# Altium schematic symbol library Schlib1.SchLib: 80 symbols
Pins are listed as number, name and electrical type; pins without a type are passive.

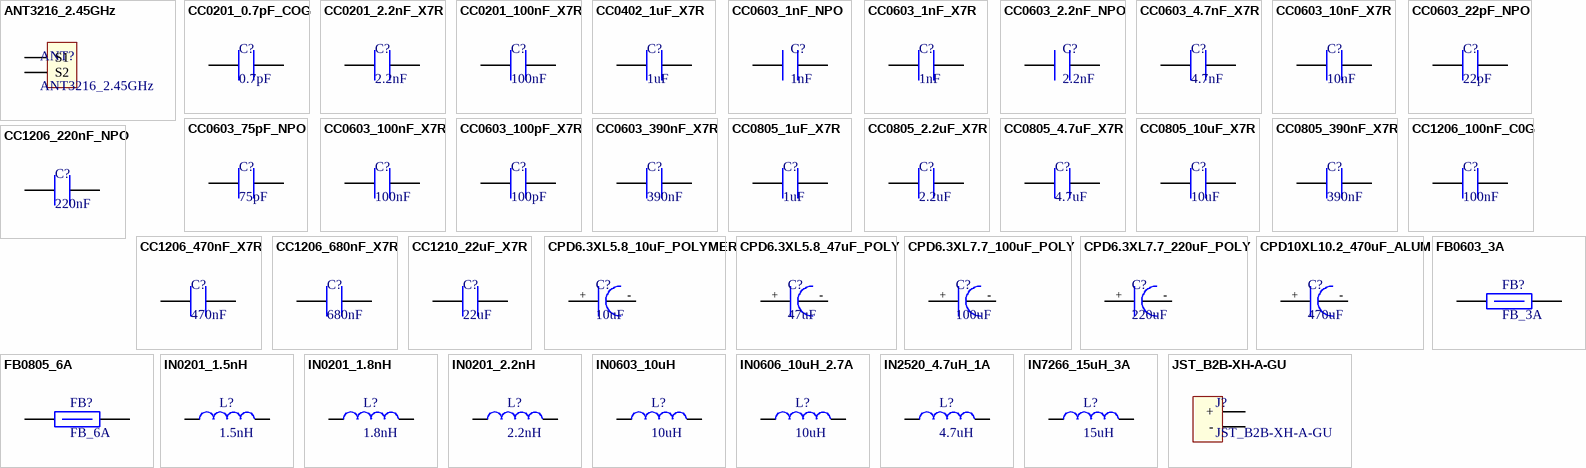
[diagram p0: symbols ANT3216_2.45GHz to JST_B2B-XH-A-GU]

## ANT3216_2.45GHz
designator ANT?
C293767, ANT3216LL00R2400A, -40℃~+105℃ 1.2mm 1.6mm 160MHz 1W 2.45GHz 3.2mm 5.05dBi 50Ω 1206 Antennas ROHS; Supplier 1: Verical; Supplier Part Number 1: ANT3216LL00R2400A
footprint ANT3216_2.4GHz (Chip Antenna, 2-Leads, Body 3.20x1.60mm, IPC Medium Density)
pins: 1 S1, 2 S2

## CC0201_0.7pF_COG
designator C?, comment 0.7pF
C907945, GJM0335C1ER70WB01D, 0.7pF 25V C0G 0201 Multilayer Ceramic Capacitors MLCC - SMD/SMT ROHS; Supplier 1: element14 APAC; Supplier Part Number 1: GJM0335C1ER70WB01D
footprint CAPC0201X03N (Chip Capacitor, 2-Leads, Body 0.60x0.30mm, IPC Medium Density)
pins: 1, 2

## CC0201_2.2nF_X7R
designator C?, comment 2.2nF
C161488. GRM033R71E222KA12D, 2.2nF 25V X7R ±10% 0201 Multilayer Ceramic Capacitors MLCC - SMD/SMT ROHS; Supplier 1: element14 APAC; Supplier Part Number 1: GRM033R71E222KA12D
footprint CAPC0201X03N (Chip Capacitor, 2-Leads, Body 0.60x0.30mm, IPC Medium Density)
pins: 1, 2

## CC0201_100nF_X7R
designator C?, comment 100nF
C1882920, CC0201KRX7R5BB104, 100nF 6.3V X7R ±10% 0201 Multilayer Ceramic Capacitors MLCC - SMD/SMT ROHS; Supplier 1: element14 APAC; Supplier Part Number 1: CC0201KRX7R5BB104
footprint CAPC0201X03N (Chip Capacitor, 2-Leads, Body 0.60x0.30mm, IPC Medium Density)
pins: 1, 2

## CC0402_1uF_X7R
designator C?, comment 1uF
C307427, CL05B105KQ5NQNC, 1uF 6.3V X7R ±10% 0402 Multilayer Ceramic Capacitors MLCC - SMD/SMT ROHS; Supplier 1: element14 APAC; Supplier Part Number 1: CL05B105KQ5NQNC
footprint CAPC0402X06N (Chip Capacitor, 2-Leads, Body 1.00x0.50mm, IPC Medium Density)
pins: 1, 2

## CC0603_1nF_NPO
designator C?, comment 1nF
C106246, CC0603JRNPO9BN102, 1nF 50V NP0 ±5% 0603 Multilayer Ceramic Capacitors MLCC - SMD/SMT ROHS; Supplier 1: element14 APAC; Supplier Part Number 1: CC0603JRNPO9BN102
footprint CAPC0603X8N
pins: 1, 2

## CC0603_1nF_X7R
designator C?, comment 1nF
C100040, CC0603KRX7R9BB102, 1nF 50V X7R ±10% 0603 Multilayer Ceramic Capacitors MLCC - SMD/SMT ROHS; Supplier 1: element14 APAC; Supplier Part Number 1: CC0603KRX7R9BB102
footprint CAPC0603X8N
pins: 1, 2

## CC0603_2.2nF_NPO
designator C?, comment 2.2nF
C107043, CC0603JRNPO9BN222, 2.2nF 50V NP0 ±5% 0603 Multilayer Ceramic Capacitors MLCC - SMD/SMT ROHS; Supplier 1: Arrow Electronics; Supplier Part Number 1: CC0603JRNPO9BN222
footprint CAPC0603X8N
pins: 1, 2

## CC0603_4.7nF_X7R
designator C?, comment 4.7nF
C106218, CC0603KRX7R9BB472, 4.7nF 50V X7R ±10% 0603 Multilayer Ceramic Capacitors MLCC - SMD/SMT ROHS; Supplier 1: element14 APAC; Supplier Part Number 1: CC0603KRX7R9BB472
footprint CAPC0603X8N
pins: 1, 2

## CC0603_10nF_X7R
designator C?, comment 10nF
C100042, CC0603KRX7R9BB103, 10nF 50V X7R ±10% 0603 Multilayer Ceramic Capacitors MLCC - SMD/SMT ROHS; Supplier 1: element14 APAC; Supplier Part Number 1: CC0603KRX7R9BB103
footprint CAPC0603X8N
pins: 1, 2

## CC0603_22pF_NPO
designator C?, comment 22pF
C105620, CC0603JRNPO9BN220, 22pF 50V NP0 ±5% 0603 Multilayer Ceramic Capacitors MLCC - SMD/SMT ROHS; Supplier 1: element14 APAC; Supplier Part Number 1: CC0603JRNPO9BN220
footprint CAPC0603X8N
pins: 1, 2

## CC0603_75pF_NPO
designator C?, comment 75pF
C282074, CC0603JRNPO9BN750, 50V 75pF NP0 ±5% 0603 Multilayer Ceramic Capacitors MLCC - SMD/SMT ROHS; Supplier 1: element14 APAC; Supplier Part Number 1: CC0603JRNPO9BN750
footprint CAPC0603X8N
pins: 1, 2

## CC0603_100nF_X7R
designator C?, comment 100nF
C14663, CC0603KRX7R9BB104, 100nF 50V X7R ±10% 0603 Multilayer Ceramic Capacitors MLCC - SMD/SMT ROHS; Supplier 1: element14 APAC; Supplier Part Number 1: CC0603KRX7R9BB104
footprint CAPC0603X8N
pins: 1, 2

## CC0603_100pF_X7R
designator C?, comment 100pF
C14663 ,CC0603KRX7R9BB104, 100nF 50V X7R ±10% 0603 Multilayer Ceramic Capacitors MLCC - SMD/SMT ROHS; Supplier 1: Avnet; Supplier Part Number 1: CC0603KRX7R9BB104
footprint CAPC0603X8N
pins: 1, 2

## CC0603_390nF_X7R
designator C?, comment 390nF
C376833, TCC0603X7R394K500CT, 390nF 50V X7R ±10% 0603 Multilayer Ceramic Capacitors MLCC - SMD/SMT ROHS
footprint CAPC1206X18N (Chip Capacitor, 2-Leads, Body 3.20x1.60mm, IPC Medium Density)
pins: 1, 2

## CC0805_1uF_X7R
designator C?, comment 1uF
C28323, CL21B105KBFNNNE, 1uF 50V X7R ±10% 0805 Multilayer Ceramic Capacitors MLCC - SMD/SMT ROHS; Supplier 1: Future Electronics; Supplier Part Number 1: CL21B105KBFNNNE
footprint CAP0805X13N (Chip Capacitor, 2-Leads, Body 2.00x1.25mm, IPC Medium Density)
pins: 1, 2

## CC0805_2.2uF_X7R
designator C?, comment 2.2uF
C19110 ,CL21B225KAFNNNE, 2.2uF 25V X7R ±10% 0805 Multilayer Ceramic Capacitors MLCC - SMD/SMT ROHS; Supplier 1: Avnet; Supplier Part Number 1: CL21B225KAFNNNE
footprint CAP0805X13N (Chip Capacitor, 2-Leads, Body 2.00x1.25mm, IPC Medium Density)
pins: 1, 2

## CC0805_4.7uF_X7R
designator C?, comment 4.7uF
C354262, CC0805KKX7R8BB475, 25V 4.7uF X7R ±10% 0805 Multilayer Ceramic Capacitors MLCC - SMD/SMT ROHS; Supplier 1: element14 APAC; Supplier Part Number 1: CC0805KKX7R8BB475
footprint CAP0805X13N (Chip Capacitor, 2-Leads, Body 2.00x1.25mm, IPC Medium Density)
pins: 1, 2

## CC0805_10uF_X7R
designator C?, comment 10uF
C95841, CL21B106KOQNNNE, 10uF 16V X7R ±10% 0805 Multilayer Ceramic Capacitors MLCC - SMD/SMT ROHS; Supplier 1: Avnet; Supplier Part Number 1: CL21B106KOQNNNE
footprint CAPC0805X14N (Chip Capacitor, 2-Leads, Body 2.00x1.25mm, IPC Medium Density)
pins: 1, 2

## CC0805_390nF_X7R
designator C?, comment 390nF
C1854267, CC0805KKX7R9BB394, 390nF 50V X7R ±10% 0805 Multilayer Ceramic Capacitors MLCC - SMD/SMT ROHS; Supplier 1: element14 APAC; Supplier Part Number 1: CC0805KKX7R9BB394
footprint CAPC0805X14N (Chip Capacitor, 2-Leads, Body 2.00x1.25mm, IPC Medium Density)
pins: 1, 2

## CC1206_100nF_C0G
designator C?, comment 100nF
C97946, GRM31C5C1H104JA01L, 100nF 50V C0G ±5% 1206 Multilayer Ceramic Capacitors MLCC - SMD/SMT ROHS; Supplier 1: TME; Supplier Part Number 1: GRM31C5C1H104JA01L
footprint CAPC1206X18N (Chip Capacitor, 2-Leads, Body 3.20x1.60mm, IPC Medium Density)
pins: 1, 2

## CC1206_220nF_NPO
designator C?, comment 220nF
C464977, GRM31C5C1H224JE02L, 220nF 50V C0G ±5% 1206 Multilayer Ceramic Capacitors MLCC - SMD/SMT ROHS; Supplier 1: Chip One Stop; Supplier Part Number 1: GRM31C5C1H224JE02L
footprint CAPC1206X18N (Chip Capacitor, 2-Leads, Body 3.20x1.60mm, IPC Medium Density)
pins: 1, 2

## CC1206_470nF_X7R
designator C?, comment 470nF
C277483, CC1206KKX7R9BB474, 470nF 50V X7R ±10% 1206 Multilayer Ceramic Capacitors MLCC - SMD/SMT ROHS; Supplier 1: element14 APAC; Supplier Part Number 1: CC1206KKX7R9BB474
footprint CAPC1206X18N (Chip Capacitor, 2-Leads, Body 3.20x1.60mm, IPC Medium Density)
pins: 1, 2

## CC1206_680nF_X7R
designator C?, comment 680nF
C145012, CC1206KKX7R9BB684, 50V 680nF X7R ±10% 1206 Multilayer Ceramic Capacitors MLCC - SMD/SMT ROHS; Supplier 1: element14 APAC; Supplier Part Number 1: CC1206KKX7R9BB684
footprint CAPC1206X18N (Chip Capacitor, 2-Leads, Body 3.20x1.60mm, IPC Medium Density)
pins: 1, 2

## CC1210_22uF_X7R
designator C?, comment 22uF
C309062, CL32B226KAJNNNE, 22uF 25V X7R ±10% 1210 Multilayer Ceramic Capacitors MLCC - SMD/SMT ROHS; Supplier 1: Avnet; Supplier Part Number 1: CL32B226KAJNNNE
footprint CAPC1210X25N (Chip Capacitor, 2-Leads, Body 3.20x2.50mm, IPC Medium Density)
pins: 1, 2

## CPD6.3XL5.8_10uF_POLYMER
designator C?, comment 10uF
C5246550, HV1V106M0605PZ, -55℃~+105℃ 10uF 2.2mm 2000hrs 35V 5.8mm 6.3mm ±20% SMD,D6.3xL5.8mm Polymer Aluminum Capacitors ROHS; Supplier 1: LCSC; Supplier Part Number 1: C5246550
footprint CAPD6.3XL5.8X61M (Polymer Aluminum Electrolytic Capacitor, Body 6.70x6.70x6.10mm, IPC Low Density)
pins: 1, 2
text: +; -

## CPD6.3XL5.8_47uF_POLY
designator C?, comment 47uF
C5246552, HV1V476M0605PZ, -55℃~+105℃ 2.2mm 2000hrs 35V 47uF 5.8mm 6.3mm ±20% SMD,D6.3xL5.8mm Polymer Aluminum Capacitors ROHS; Supplier 1: LCSC; Supplier Part Number 1: C5246552
footprint CAPD6.3XL5.8X61M (Polymer Aluminum Electrolytic Capacitor, Body 6.70x6.70x6.10mm, IPC Low Density)
pins: 1, 2
text: +; -

## CPD6.3XL7.7_100uF_POLY
designator C?, comment 100uF
C5246554, HV1V107M0607PZ, -55℃~+105℃ 100uF 2.2mm 2000hrs 35V 6.3mm 7.7mm ±20% SMD,D6.3xL7.7mm Polymer Aluminum Capacitors ROHS; Supplier 1: LCSC; Supplier Part Number 1: C5246554
footprint CAPD6.3XL6.3X77M (Aluminum Electrolytic Capacitor, Body 6.60x6.60x7.70mm, IPC Low Density)
pins: 1, 2
text: +; -

## CPD6.3XL7.7_220uF_POLY
designator C?, comment 220uF
C5246541, HV1E227M0607PZ, -55℃~+105℃ 2.2mm 2000hrs 220uF 25V 6.3mm 7.7mm ±20% SMD,D6.3xL7.7mm Polymer Aluminum Capacitors ROHS; Supplier 1: LCSC; Supplier Part Number 1: C5246541
footprint CAPD6.3XL6.3X77M (Aluminum Electrolytic Capacitor, Body 6.60x6.60x7.70mm, IPC Low Density)
pins: 1, 2
text: +; -

## CPD10XL10.2_470uF_ALUM
designator C?, comment 470uF
C3350, RVT1V471M1010, -55℃~+105℃ 10.2mm 10mm 2000hrs@105℃ 35V 470uF ±20% SMD,D10xL10.2mm Aluminum Electrolytic Capacitors - SMD ROHS; Supplier 1: UnikeyIC; Supplier Part Number 1: RVT1V471M1010
footprint CAPD10XL11.1X10.2M
pins: 1, 2
text: +; -

## FB0603_3A
designator FB?, comment FB_3A
C107332, MPZ1608S101ATAH0, -55℃~+125℃ 1 100Ω@100MHz 30mΩ 3A ±25% 0603 Ferrite Beads ROHS; Supplier 1: element14 APAC; Supplier Part Number 1: MPZ1608S101ATAH0
footprint FB0603X08N (Chip Inductor, 2-Leads, Body 1.60x0.80mm, IPC Medium Density)
pins: 1, 2

## FB0805_6A
designator FB?, comment FB_6A
C136227, MPZ2012S300AT000, -55℃~+125℃ 1 10mΩ 30Ω@100MHz 6A ±25% 0805 Ferrite Beads ROHS; Supplier 1: element14 APAC; Supplier Part Number 1: MPZ2012S300AT000
footprint FB0805X12N (Chip Inductor, 2-Leads, Body 2.00x1.25mm, IPC Medium Density)
pins: 1, 2

## IN0201_1.5nH
designator L?, comment 1.5nH
C77114, LQP03TN1N5B02D, 1.5nH 14@500MHz 150mΩ 15GHz 600mA Thick Film Inductor 0201 Inductors (SMD) ROHS; Supplier 1: Future Electronics; Supplier Part Number 1: LQP03TN1N5B02D
footprint INDC0201 (Chip Inductor, 2-Leads, Body 0.60x0.30mm, IPC Medium Density)
pins: 1, 2

## IN0201_1.8nH
designator L?, comment 1.8nH
C98040, LQP03TN1N8B02D, 1.8nH 14@500MHz 150mΩ 15GHz 600mA Thick Film Inductor 0201 Inductors (SMD) ROHS; Supplier 1: element14 APAC; Supplier Part Number 1: LQP03TN1N8B02D
footprint INDC0201 (Chip Inductor, 2-Leads, Body 0.60x0.30mm, IPC Medium Density)
pins: 1, 2

## IN0201_2.2nH
designator L?, comment 2.2nH
C98041, LQP03TN2N2B02D, 11GHz 14@500MHz 150mΩ 2.2nH 600mA Thick Film Inductor 0201 Inductors (SMD) ROHS; Supplier 1: element14 APAC; Supplier Part Number 1: LQP03TN2N2B02D
footprint INDC0201 (Chip Inductor, 2-Leads, Body 0.60x0.30mm, IPC Medium Density)
pins: 1, 2

## IN0603_10uH
designator L?, comment 10uH
C76798, MLZ1608M100WT000, 1.05Ω 10uH 250mA 2MHz 90mA Multilayer inductor ±20% 0603 Inductors (SMD) ROHS; Supplier 1: element14 APAC; Supplier Part Number 1: MLZ1608M100WT000
footprint INDC0603X08N (Chip Inductor, 2-Leads, Body 1.60x0.80mm, IPC Medium Density)
pins: 1, 2

## IN0606_10uH_2.7A
designator L?, comment 10uH
C168076, FNR6045S100MT, 10uH 2.7A 3.5A 62mΩ Magnetic Shielded Inductor ±20% SMD,6x6mm Power Inductors ROHS
footprint INDC6060X45N (Chip Inductor, 2-Leads, Body 6.00x6.00mm, IPC Medium Density)
pins: 1, 2

## IN2520_4.7uH_1A
designator L?, comment 4.7uH
C91237, MLP2520S4R7MT0S1, 130mΩ 1A 4.7uH Multilayer inductor ±20% 1008 Inductors (SMD) ROHS; Supplier 1: element14 APAC; Supplier Part Number 1: MLP2520S4R7MT0S1
footprint INDC2520X10N (Chip Inductor, 2-Leads, Body 2.50x2.00mm, IPC Medium Density)
pins: 1, 2

## IN7266_15uH_3A
designator L?, comment 15uH
C5189959, CYA0630-15UH, 15uH 3.8A 3A 98mΩ ±20% SMD,7.2x6.6mm Inductors (SMD) ROHS; Supplier 1: LCSC; Supplier Part Number 1: C5189959
footprint INDM7266X30N (Molded Inductor, 2-Leads, Body 7.20x6.60mm, IPC Medium Density)
pins: 1, 2

## JST_B2B-XH-A-GU
designator J?
C265283, B2B-XH-A-GU, -25℃~+85℃ 1 1x2P 2 2.5mm 250V 2P 3A 5.75mm 7.4mm 7mm Brass Gold K Pin PA66 Through Hole UL94V-0 White XH 插件,P=2.5mm Wire To Board Connector ROHS; Supplier 1: Verical; Supplier Part Number 1: B2B-XH-A-GU
footprint JST_B2B_XH_A_GU
pins: 1 +, 2 -

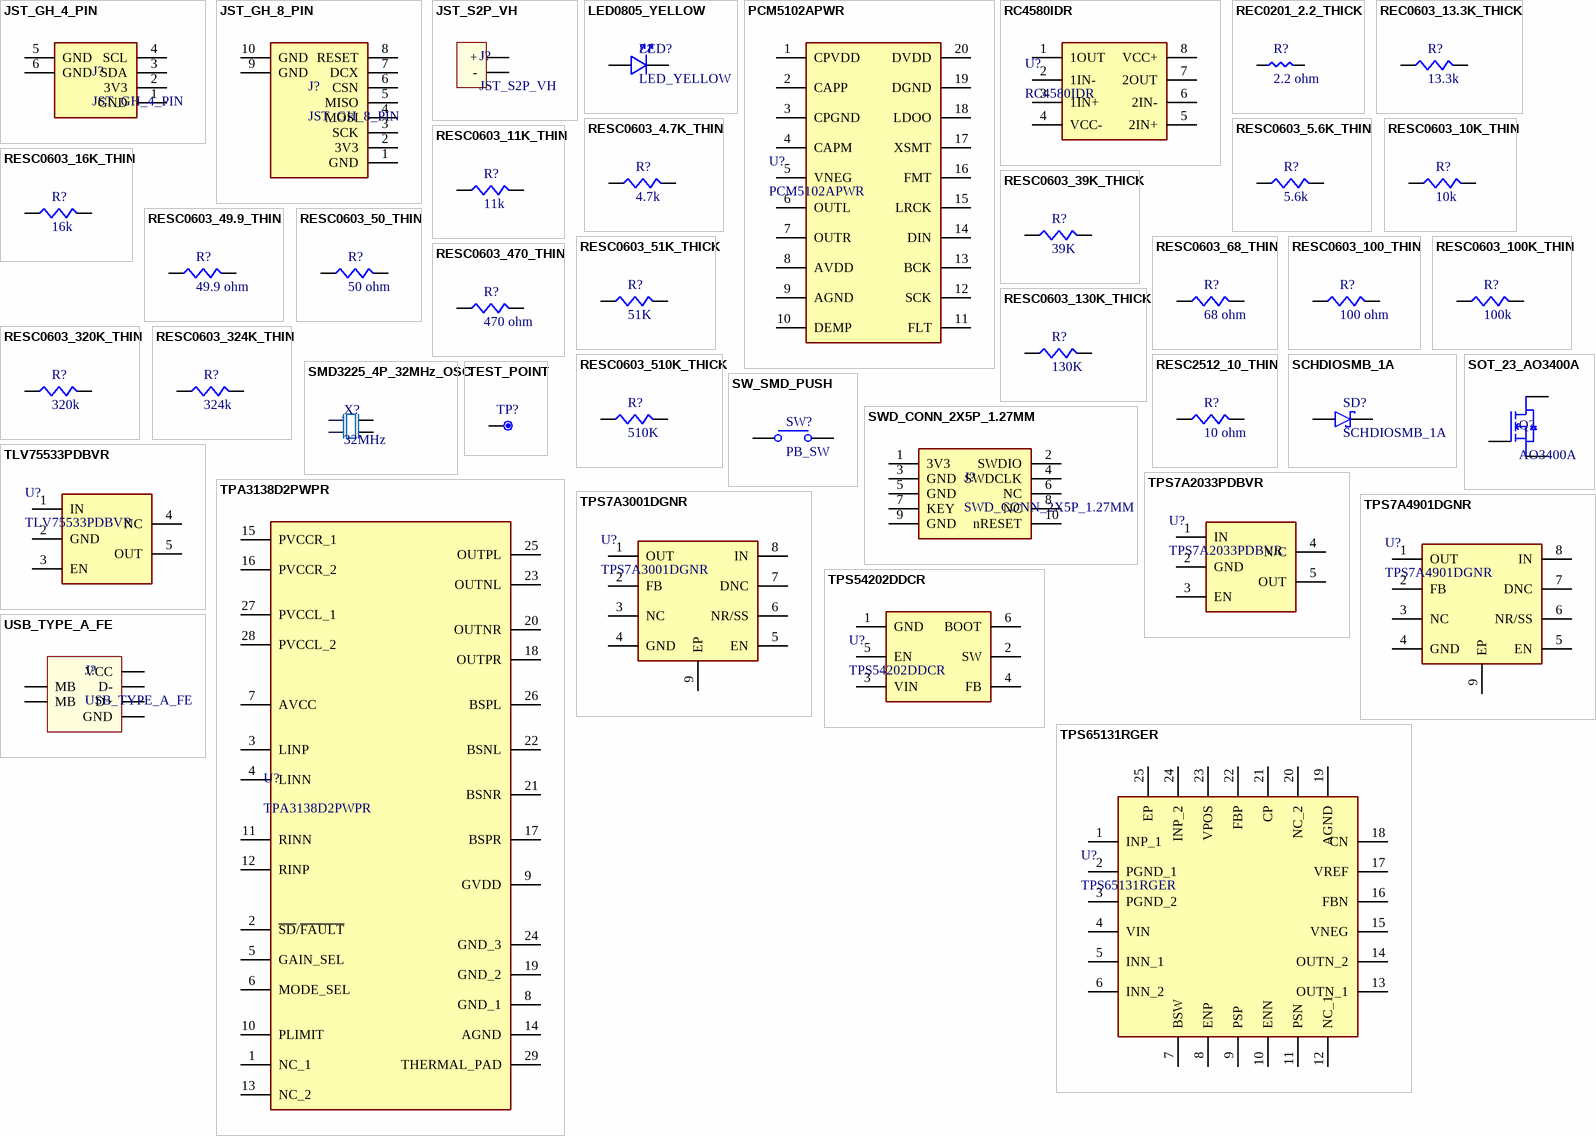
[diagram p1: symbols JST_GH_4_PIN to USB_TYPE_A_FE]

## JST_GH_4_PIN
designator J?
C161692, BM04B-GHS-TBT(LF)(SN), -25℃~+85℃ 1 1.25mm 1A 1x4P 4 4.05mm 4.32mm 4P 50V 8.25mm Auxiliary Solder Pin GH PA9T Phosphor bronze Surface Mount,Vertical Tin UL94V-0 White SMD,P=1.25mm Wire To Board Connector ROHS; Supplier 1: CoreStaff; Supplier Part Number 1: ST74986991
footprint JST_GH_4_PIN
pins: 1 GND, 2 3V3, 3 SDA, 4 SCL, 5 GND, 6 GND

## JST_GH_8_PIN
designator J?
C133062, BM08B-GHS-TBT(LF)(SN), -25℃~+85℃ 1 1.25mm 13.25mm 1A 1x8P 4.05mm 4.32mm 50V 8 8P Auxiliary Solder Pin GH PA9T Phosphor bronze Surface Mount,Vertical Tin UL94V-0 White SMD,P=1.25mm Wire To Board Connector ROHS; Supplier 1: Future Electronics; Supplier Part Number 1: BM08B-GHS-TBT(LF)(SN)
footprint JST_GH_8_PIN
pins: 1 GND, 2 3V3, 3 SCK, 4 MOSI, 5 MISO, 6 CSN, 7 DCX, 8 RESET, 9 GND, 10 GND

## JST_S2P_VH
designator J?
C160355, S2P-VH(LF)(SN), -25℃~+85℃ 1 10A 13.9mm 1x2P 2 250V 2P 3.96mm 7.86mm Brass PA66 Right Angle Tin UL94V-0 VH White 弯插,P=3.96mm Wire To Board Connector ROHS; Supplier 1: CoreStaff; Supplier Part Number 1: ST73514420
footprint JST_S2P_VH
pins: 1 +, 2 -

## LED0805_YELLOW
designator LED?, comment LED_YELLOW
C965814, XL-2012UYC, 120° 2.3V 20mA 50mW 585nm~595nm 590nm Discrete Diode Top-mount Water Clear Yellow 0805 LED Indication - Discrete ROHS; Supplier 1: UnikeyIC; Supplier Part Number 1: XL-2012UYC
footprint LED_0805_127P120X200-2N (Chip Array, Concave, 2-Leads, Pitch 1.27mm,  Body 1.20x2.00mm,  IPC Medium Density)
pins: 1 -, 2 +

## PCM5102APWR
designator U?
C107671, PCM5102APWR, -25℃~+85℃ 1.8V~3.3V 2 32 384kHz 500uA 50MHz Audio Decoder I2S TSSOP-20 ADCs/DACs - Special Purpose ROHS; Manufacturer_Name: Texas Instruments; Datasheet Link: https://componentsearchengine.com/Datasheets/2/PCM5102APWR.pdf; Height: 1.2mm; Manufacturer_Part_Number: PCM5102APWR; Mouser Part Number: 595-PCM5102APWR; Mouser Price/Stock: https://www.mouser.co.uk/ProductDetail/Texas-Instruments/PCM5102APWR?qs=E2%2FxqS9xjzrfECkwEYoiyg%3D%3D; Arrow Part Number: PCM5102APWR; Arrow Price/Stock: https://www.arrow.com/en/products/pcm5102apwr/texas-instruments?utm_currency=USD&region=nac; Supplier 1: DigiKey; Supplier Part Number 1: 296-36707-1-ND
footprint SOP65P640X120-20N
pins: 1 CPVDD, 2 CAPP, 3 CPGND, 4 CAPM, 5 VNEG, 6 OUTL, 7 OUTR, 8 AVDD, 9 AGND, 10 DEMP, 11 FLT, 12 SCK, 13 BCK, 14 DIN, 15 LRCK, 16 FMT, 17 XSMT, 18 LDOO, 19 DGND, 20 DVDD

## RC4580IDR
designator U?
C80100, RC4580IDR, -16V~-2V、2V~16V -40℃~+85℃ 0.0005% 110dB 2-Channel 9mA SOIC-8 Audio Amplifiers ROHS; Manufacturer_Name: Texas Instruments; Datasheet Link: http://www.ti.com/lit/gpn/rc4580; Height: 1.75mm; Manufacturer_Part_Number: RC4580IDR; Mouser Part Number: 595-RC4580IDR; Mouser Price/Stock: https://www.mouser.co.uk/ProductDetail/Texas-Instruments/RC4580IDR?qs=sSOk4GDDv7xt5SOlVrtkww%3D%3D; Arrow Part Number: RC4580IDR; Arrow Price/Stock: https://www.arrow.com/en/products/rc4580idr/texas-instruments?region=nac; Supplier 1: Rochester Electronics; Supplier Part Number 1: RC4580IDR
footprint SOIC127P600X175-8N
pins: 1 1OUT, 2 1IN-, 3 1IN+, 4 VCC-, 5 2IN+, 6 2IN-, 7 2OUT, 8 VCC+

## REC0201_2.2_THICK
designator R?, comment 2.2 ohm
C474415, RC0201JR-072R2L, -100ppm/℃~+350ppm/℃ -55℃~+125℃ 2.2Ω 25V 50mW Thick Film Resistor ±5% 0201 Chip Resistor - Surface Mount ROHS; Supplier 1: element14 APAC; Supplier Part Number 1: RC0201JR-072R2L
footprint CAPC0201X03N (Chip Capacitor, 2-Leads, Body 0.60x0.30mm, IPC Medium Density)
pins: 1, 2

## REC0603_13.3K_THICK
designator R?, comment 13.3k
C185373, RC0603FR-0713K3L, -55℃~+155℃ 100mW 13.3kΩ 75V Thick Film Resistor ±1% ±100ppm/℃ 0603 Chip Resistor - Surface Mount ROHS; Supplier 1: Future Electronics; Supplier Part Number 1: RC0603FR-0713K3L
footprint RECS0603X45N
pins: 1, 2

## RESC0603_4.7K_THIN
designator R?, comment 4.7k
C513565, RT0603BRD074K7L, -55℃~+155℃ 100mW 4.7kΩ 75V Thin Film Resistor ±0.1% ±25ppm/℃ 0603 Chip Resistor - Surface Mount ROHS; Supplier 1: Avnet; Supplier Part Number 1: RT0603BRD074K7L
footprint RECS0603X45N
pins: 1, 2

## RESC0603_5.6K_THIN
designator R?, comment 5.6k
C179095, RT0603BRD075K6L, -55℃~+155℃ 100mW 5.6kΩ 75V Thin Film Resistor ±0.1% ±25ppm/℃ 0603 Chip Resistor - Surface Mount ROHS; Supplier 1: element14 APAC; Supplier Part Number 1: 3496658
footprint RECS0603X45N
pins: 1, 2

## RESC0603_10K_THIN
designator R?, comment 10k
C95204, RT0603BRD0710KL, -55℃~+155℃ 100mW 10kΩ 75V Thin Film Resistor ±0.1% ±25ppm/℃ 0603 Chip Resistor - Surface Mount ROHS; Supplier 1: Avnet; Supplier Part Number 1: RT0603BRD0710KL
footprint RECS0603X45N
pins: 1, 2

## RESC0603_11K_THIN
designator R?, comment 11k
C728581, RT0603BRD0711KL, -55℃~+155℃ 100mW 11kΩ 75V Thin Film Resistor ±0.1% ±25ppm/℃ 0603 Chip Resistor - Surface Mount ROHS; Supplier 1: element14 APAC; Supplier Part Number 1: 4152637
footprint RECS0603X45N
pins: 1, 2

## RESC0603_16K_THIN
designator R?, comment 16k
C137788, RC0603FR-0716KL, -55℃~+155℃ 100mW 16kΩ 75V Thick Film Resistor ±1% ±100ppm/℃ 0603 Chip Resistor - Surface Mount ROHS; Supplier 1: element14 APAC; Supplier Part Number 1: RC0603FR-0716KL
footprint RECS0603X45N
pins: 1, 2

## RESC0603_39K_THICK
designator R?, comment 39K
C163424, RC0603FR-0739KL, -55℃~+155℃ 100mW 39kΩ 75V Thick Film Resistor ±1% ±100ppm/℃ 0603 Chip Resistor - Surface Mount ROHS; Supplier 1: element14 APAC; Supplier Part Number 1: RC0603FR-0739KL
footprint RECS0603X45N
pins: 1, 2

## RESC0603_49.9_THIN
designator R?, comment 49.9 ohm
C23185, 0603WAF499JT5E, -55℃~+155℃ 100mW 49.9Ω 75V Thick Film Resistor ±1% ±100ppm/℃ 0603 Chip Resistor - Surface Mount ROHS; Supplier 1: TME; Supplier Part Number 1: 0603WAF499JT5E
footprint RECS0603X45N
pins: 1, 2

## RESC0603_50_THIN
designator R?, comment 50 ohm
C849792, RT0603BRE0750RL, -55℃~+155℃ 100mW 50Ω 75V Thin Film Resistor ±0.1% ±50ppm/℃ 0603 Chip Resistor - Surface Mount ROHS; Supplier 1: element14 APAC; Supplier Part Number 1: RT0603BRE0750RL
footprint RECS0603X45N
pins: 1, 2

## RESC0603_51K_THICK
designator R?, comment 51K
C107231, RC0603FR-0751KL, -55℃~+155℃ 100mW 51kΩ 75V Thick Film Resistor ±1% ±100ppm/℃ 0603 Chip Resistor - Surface Mount ROHS; Supplier 1: element14 APAC; Supplier Part Number 1: RC0603FR-0751KL
footprint RECS0603X45N
pins: 1, 2

## RESC0603_68_THIN
designator R?, comment 68 ohm
C861523, RT0603BRD0768RL, -55℃~+155℃ 100mW 68Ω 75V Thin Film Resistor ±0.1% ±25ppm/℃ 0603 Chip Resistor - Surface Mount ROHS; Supplier 1: CoreStaff; Supplier Part Number 1: ST66570258
footprint RECS0603X45N
pins: 1, 2

## RESC0603_100_THIN
designator R?, comment 100 ohm
C122970, RT0603BRD07100RL, -55℃~+155℃ 100mW 100Ω 75V Thin Film Resistor ±0.1% ±25ppm/℃ 0603 Chip Resistor - Surface Mount ROHS; Supplier 1: element14 APAC; Supplier Part Number 1: RT0603BRD07100RL
footprint RECS0603X45N
pins: 1, 2

## RESC0603_100K_THIN
designator R?, comment 100k
C116674, AC0603FR-07100KL, -55℃~+155℃ 100kΩ 100mW 75V Thick Film Resistor ±1% ±100ppm/℃ 0603 Chip Resistor - Surface Mount ROHS; Supplier 1: element14 APAC; Supplier Part Number 1: AC0603FR-07100KL
footprint RECS0603X45N
pins: 1, 2

## RESC0603_130K_THICK
designator R?, comment 130K
C163432, RC0603FR-07130KL, -55℃~+155℃ 100mW 130kΩ 75V Thick Film Resistor ±1% ±100ppm/℃ 0603 Chip Resistor - Surface Mount ROHS; Supplier 1: element14 APAC; Supplier Part Number 1: RC0603FR-07130KL
footprint RECS0603X45N
pins: 1, 2

## RESC0603_320K_THIN
designator R?, comment 320k
C20165692, RT0603BRD07320KL, -55℃~+155℃ 100mW 320kΩ 75V Thin Film Resistor ±0.1% ±25ppm/℃ 0603 Chip Resistor - Surface Mount ROHS; Supplier 1: element14 APAC; Supplier Part Number 1: RT0603BRD07320KL
footprint RECS0603X45N
pins: 1, 2

## RESC0603_324K_THIN
designator R?, comment 324k
C861321, RT0603BRD07324KL, -55℃~+155℃ 100mW 324kΩ 75V Thin Film Resistor ±0.1% ±25ppm/℃ 0603 Chip Resistor - Surface Mount ROHS; Supplier 1: Verical; Supplier Part Number 1: RT0603BRD07324KL
footprint RECS0603X45N
pins: 1, 2

## RESC0603_470_THIN
designator R?, comment 470 ohm
C705857,RT0603BRE07470RL, -55℃~+155℃ 100mW 470Ω 75V Thin Film Resistor ±0.1% ±50ppm/℃ 0603 Chip Resistor - Surface Mount ROHS; Supplier 1: Arrow Electronics; Supplier Part Number 1: RT0603BRE07470RL
footprint RECS0603X45N
pins: 1, 2

## RESC0603_510K_THICK
designator R?, comment 510K
C114066, RC0603FR-07510KL, -55℃~+155℃ 100mW 510kΩ 75V Thick Film Resistor ±1% ±100ppm/℃ 0603 Chip Resistor - Surface Mount ROHS; Supplier 1: element14 APAC; Supplier Part Number 1: RC0603FR-07510KL
footprint RECS0603X45N
pins: 1, 2

## RESC2512_10_THIN
designator R?, comment 10 ohm
C3013385, FRP2512J100 TS, -55℃~+155℃ 10Ω 200V 2W Thick Film Resistor ±200ppm/℃ ±5% 2512 Chip Resistor - Surface Mount ROHS; Supplier 1: UnikeyIC; Supplier Part Number 1: FRP2512J100 TS
footprint RESC2512X06N (Chip Resistor, 2-Leads, Body 6.35x3.10mm, IPC Medium Density)
pins: 1, 2

## SCHDIOSMB_1A
designator SD?
C86598, STPS160U, 1 Independent 1A 4uA@60V 60V 670mV@1A 75A SMB Schottky Diodes ROHS; Supplier 1: element14 APAC; Supplier Part Number 1: STPS160U
footprint SD_SMB_1A (Molded Diode, 2-Leads, Body 4.32x3.63mm, IPC Medium Density)
pins: 1, 2

## SMD3225_4P_32MHz_OSC
designator X?, comment 32MHz
C20617581, XL2MI-111-32M, -40℃~+85℃ 10pF 32MHz 40Ω Crystal Oscillator ±10ppm ±20ppm SMD3225-4P Crystals ROHS; Supplier 1: UnikeyIC; Supplier Part Number 1: XL2MI-111-32M
footprint CRYOSC_3.2X2.5M (DFN, 4-Leads, Body 2.50x3.20mm, Pitch 1.70mm, IPC Medium Density)
pins: 1 CLK1, 2 GND1, 3 CLK2, 4 GND2

## SOT_23_AO3400A
designator Q?, comment AO3400A
C347475, AO3400A, -55℃~+150℃ 1 N-channel 1.1V 1.4W 17mΩ@10V 30V 5.8A 77pF 823pF 9.7nC@4.5V 99pF SOT-23 MOSFETs ROHS; Supplier 1: UnikeyIC; Supplier Part Number 1: AO3400A
footprint SOT23_P240X110-3N (SOT23, 3-Leads, Body 2.95x2.40mm, Pitch 0.95mm, IPC Medium Density)
pins: 1 GATE, 2 SOURCE, 3 DRAIN

## SW_SMD_PUSH
designator SW?, comment PB_SW
C49393629, R4A25211L, 1.8N 12V 50mA Gull Wing Rectangular Button SPST-NO Surface Mount,Vertical White SMD Pushbutton Switches ROHS
footprint SW_PB_2 (SOIC, 2-Leads, Body 3.50x6.00mm, Pitch 1.27mm, IPC Medium Density)
pins: 1, 2

## SWD_CONN_2X5P_1.27MM
designator J?
C42372547, HX JN1.27-2x5P ZZ H4.9, -40℃~+105℃ 1.27mm 1.27mm 1A 2 2x5P 5 500V Black Copper Gold IDC Header Through Hole Plugin,P=1.27mm IDC Connectors ROHS; Supplier 1: Verical; Supplier Part Number 1: 3220-10-0100-00
footprint CONN_2X5P_1.27MM - duplicate
pins: 1 3V3, 2 SWDIO, 3 GND, 4 SWDCLK, 5 GND, 6 NC, 7 KEY, 8 NC, 9 GND, 10 nRESET

## TEST_POINT
designator TP?  (value not drawn)
Test point
footprint TEST_POINT
pins: 1

## TLV75533PDBVR
designator U?
C404027, TLV75533PDBVR, -40℃~+125℃@(Tj) 1 238mV@(500mA) 25uA 3.3V 46dB@(100kHz) 5.5V 500mA 71.5uVrms Fixed Over Current Protection、Thermal Shutdown、Input undervoltage protection Positive SOT-23-5 Voltage Regulators - Linear, Low Drop Out (LDO) Regulators ROHS; Manufacturer_Name: Texas Instruments; Datasheet Link: http://www.ti.com/lit/gpn/tlv755p; Height: 1.45mm; Manufacturer_Part_Number: TLV75533PDBVR; Mouser Part Number: 595-TLV75533PDBVR; Mouser Price/Stock: https://www.mouser.co.uk/ProductDetail/Texas-Instruments/TLV75533PDBVR?qs=55YtniHzbhAKEwqeO2xJXQ%3D%3D; Arrow Part Number: TLV75533PDBVR; Arrow Price/Stock: https://www.arrow.com/en/products/tlv75533pdbvr/texas-instruments?utm_currency=USD&region=nac; Supplier 1: DigiKey; Supplier Part Number 1: 296-50411-1-ND
footprint SOT95P280X145-5N
pins: 1 IN, 2 GND, 3 EN, 4 NC, 5 OUT

## TPA3138D2PWPR
designator U?
C475506, TPA3138D2PWPR, -10℃~+85℃ -70dB 0.04% 102dB 10W×2@6Ω、18.5W×1@4Ω 2-Channel 20mA 3.5V~14.4V Automatic mute/no-noise switch、Overvoltage protection、Digital programmable gain Class D TSSOP-28-EP Audio Amplifiers ROHS; Manufacturer_Name: Texas Instruments; Datasheet Link: http://www.ti.com/lit/gpn/tpa3138d2; Height: 1.2mm; Manufacturer_Part_Number: TPA3138D2PWPR; Mouser Part Number: 595-TPA3138D2PWPR; Mouser Price/Stock: https://www.mouser.co.uk/ProductDetail/Texas-Instruments/TPA3138D2PWPR?qs=fAHHVMwC%252BbipgX0F9%252BCw8A%3D%3D; Arrow Part Number: TPA3138D2PWPR; Arrow Price/Stock: null?region=nac; Supplier 1: DigiKey; Supplier Part Number 1: 296-51849-1-ND
footprint SOP65P640X120-29N
pins: 1 NC_1, 2 ~{SD}/~{FAULT}, 3 LINP, 4 LINN, 5 GAIN_SEL, 6 MODE_SEL, 7 AVCC, 8 GND_1, 9 GVDD, 10 PLIMIT, 11 RINN, 12 RINP, 13 NC_2, 14 AGND, 15 PVCCR_1, 16 PVCCR_2, 17 BSPR, 18 OUTPR, 19 GND_2, 20 OUTNR, 21 BSNR, 22 BSNL, 23 OUTNL, 24 GND_3, 25 OUTPL, 26 BSPL, 27 PVCCL_1, 28 PVCCL_2, 29 THERMAL_PAD

## TPS7A2033PDBVR
designator U?
C2862740, TPS7A2033PDBVR, -40℃~+125℃@(Tj) 1 10uVrms 140mV@(300mA) 3.3V 300mA 65dB@(100kHz) 6V 8.5uA Fixed Over Current Protection、Enable Positive SOT-23-5 Voltage Regulators - Linear, Low Drop Out (LDO) Regulators ROHS; Manufacturer_Name: Texas Instruments; Datasheet Link: https://www.ti.com/lit/ds/symlink/tps7a20.pdf?ts=1603960048570&ref_url=https%253A%252F%252Fwww.ti.com%252Fstore%252Fti%252Fen%252Fp%252Fproduct%252F%253Fp%253DPTPS7A2045PDQNR%2526keyMatch%253DPTPS7A2045PDQNR%2526tisearch%253DSearch-EN-everything; Height: 1.45mm; Manufacturer_Part_Number: TPS7A2033PDBVR; Mouser Part Number: 595-TPS7A2033PDBVR; Mouser Price/Stock: https://www.mouser.co.uk/ProductDetail/Texas-Instruments/TPS7A2033PDBVR?qs=hd1VzrDQEGjk%2FOBnRfKB4A%3D%3D; Arrow Part Number: TPS7A2033PDBVR; Arrow Price/Stock: https://www.arrow.com/en/products/tps7a2033pdbvr/texas-instruments.html?utm_currency=USD&region=nac; Supplier 1: DigiKey; Supplier Part Number 1: 296-TPS7A2033PDBVRCT-ND
footprint SOT95P280X145-5N (TLV75533PDBVR)
pins: 1 IN, 2 GND, 3 EN, 4 N/C, 5 OUT

## TPS7A3001DGNR
designator U?
C33835, TPS7A3001DGNR, -40℃~+125℃@(Tj) 1 1.18V~33V 15.1uVrms 200mA 216mV@(100mA) 36V 55uA 72dB@(120Hz) Adjustable Negative Over Current Protection、Enable、Thermal Shutdown HVSSOP-8 Voltage Regulators - Linear, Low Drop Out (LDO) Regulators ROHS; Manufacturer_Name: Texas Instruments; Datasheet Link: http://www.ti.com/lit/ds/symlink/tps7a30.pdf; Height: 1.1mm; Manufacturer_Part_Number: TPS7A3001DGNR; Mouser Part Number: 595-TPS7A3001DGNR; Mouser Price/Stock: https://www.mouser.co.uk/ProductDetail/Texas-Instruments/TPS7A3001DGNR?qs=Ze4%2FuFuz19IOnYFqkI4X3Q%3D%3D; Arrow Part Number: TPS7A3001DGNR; Arrow Price/Stock: https://www.arrow.com/en/products/tps7a3001dgnr/texas-instruments?region=nac; Supplier 1: Arrow Electronics; Supplier Part Number 1: TPS7A3001DGNR
footprint SOP65P490X110-9N
pins: 1 OUT, 2 FB, 3 NC, 4 GND, 5 EN, 6 NR/SS, 7 DNC, 8 IN, 9 EP

## TPS7A4901DGNR
designator U?
C16430, TPS7A4901DGNR,  -40℃~+125℃@(Tj) 1 1.194V~33V 15.4uVrms 150mA 260mV@(100mA) 35V 49uA 72dB@(120Hz) Adjustable Positive Under Voltage Lockout、Over Current Protection、Over Temperature Protection、Enable HVSSOP-8 Voltage Regulators - Linear, Low Drop Out (LDO) Regulators ROHS; Manufacturer_Name: Texas Instruments; Datasheet Link: http://www.ti.com/lit/ds/sbvs121b/sbvs121b.pdf; Height: 1.1mm; Manufacturer_Part_Number: TPS7A4901DGNR; Mouser Part Number: 595-TPS7A4901DGNR; Mouser Price/Stock: https://www.mouser.co.uk/ProductDetail/Texas-Instruments/TPS7A4901DGNR?qs=Ze4%2FuFuz19J1%252B3gTImnAgQ%3D%3D; Arrow Part Number: TPS7A4901DGNR; Arrow Price/Stock: https://www.arrow.com/en/products/tps7a4901dgnr/texas-instruments?utm_currency=USD&region=europe; Supplier 1: Arrow Electronics; Supplier Part Number 1: TPS7A4901DGNR
footprint SOP65P490X110-9N
pins: 1 OUT, 2 FB, 3 NC, 4 GND, 5 EN, 6 NR/SS, 7 DNC, 8 IN, 9 EP

## TPS54202DDCR
designator U?
C191884, TPS54202DDCR, -40℃~+125℃@(TJ) 1 2A 4.5V~28V 45uA 500kHz Adjustable Buck Buck Built-in Yes SOT-23-6 DC-DC Converters ROHS; Manufacturer_Name: Texas Instruments; Datasheet Link: http://www.ti.com/lit/gpn/tps54202; Height: 1.1mm; Manufacturer_Part_Number: TPS54202DDCR; Mouser Part Number: 595-TPS54202DDCR; Mouser Price/Stock: https://www.mouser.co.uk/ProductDetail/Texas-Instruments/TPS54202DDCR?qs=uP22XH7NdCsJtN%2Fq54jCtQ%3D%3D; Arrow Part Number: TPS54202DDCR; Arrow Price/Stock: https://www.arrow.com/en/products/tps54202ddcr/texas-instruments?utm_currency=USD&region=nac; Supplier 1: DigiKey; Supplier Part Number 1: 296-TPS54202DDCRCT-ND
footprint TPS54202DDCR
pins: 1 GND (power), 2 SW, 3 VIN (power), 4 FB, 5 EN, 6 BOOT

## TPS65131RGER
designator U?
C87663, TPS65131RGER, -15V~-2V、500mV~15V -40℃~+85℃@(TA)、-40℃~+125℃@(TJ) 1.25MHz~1.5MHz 1.95A 2 2.7V~5.5V 500uA Adjustable Boost、Inverting Buck-Boost Built-in No QFN-24-EP(4x4) DC-DC Converters ROHS; Manufacturer_Name: Texas Instruments; Datasheet Link: http://www.ti.com/general/docs/suppproductinfo.tsp?distId=10&gotoUrl=http%3A%2F%2Fwww.ti.com%2Flit%2Fgpn%2Ftps65130; Height: 1mm; Manufacturer_Part_Number: TPS65131RGER; Mouser Part Number: 595-TPS65131RGER; Mouser Price/Stock: https://www.mouser.co.uk/ProductDetail/Texas-Instruments/TPS65131RGER?qs=Gse6rAGbi7988IP%2FxurOIw%3D%3D; Arrow Part Number: TPS65131RGER; Arrow Price/Stock: https://www.arrow.com/en/products/tps65131rger/texas-instruments.html?utm_currency=USD&region=nac; Supplier 1: Arrow Electronics; Supplier Part Number 1: TPS65131RGER
footprint QFN50P400X400X100-25N-D
pins: 1 INP_1, 2 PGND_1, 3 PGND_2, 4 VIN, 5 INN_1, 6 INN_2, 7 BSW, 8 ENP, 9 PSP, 10 ENN, 11 PSN, 12 NC_1, 13 OUTN_1, 14 OUTN_2, 15 VNEG, 16 FBN, 17 VREF, 18 CN, 19 AGND, 20 NC_2, 21 CP, 22 FBP, 23 VPOS, 24 INP_2, 25 EP

## USB_TYPE_A_FE
designator J?
C456018, AF 90 WJDG, -25℃~+85℃ 1 1.5A 14mm 30V 4P 5,000 times Female Right Angle Type-A USB 2.0 White 弯插 USB Connectors ROHS; Supplier 1: UnikeyIC; Supplier Part Number 1: AF 90 WJDG
footprint USB_TYPE_A_FE
pins: 1 VCC, 2 D-, 3 D+, 4 GND, 5 MB, 6 MB